# Altium schematic symbol library microchip-dac.SchLib: 1 symbol
Pins are listed as number, name and electrical type; pins without a type are passive.

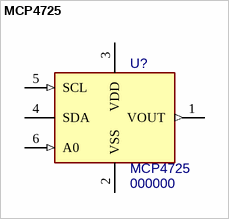
[diagram p0: symbol MCP4725]

## MCP4725
designator U?, comment 000000  value MCP4725
12-Bit Digital-to-Analog Converter with EEPROM Memory; Package: SOT23-6; PN: 000000; ExtraInfo: *
footprint SOT23-6 (6-Lead Plastic Small Outline Transistor)
pins: 1 VOUT (out), 2 VSS (power), 3 VDD (power), 4 SDA (oc), 5 SCL (in), 6 A0 (in)